# Altium schematic symbol library custom_components.SchLib: 25 symbols
Pins are listed as number, name and electrical type; pins without a type are passive.

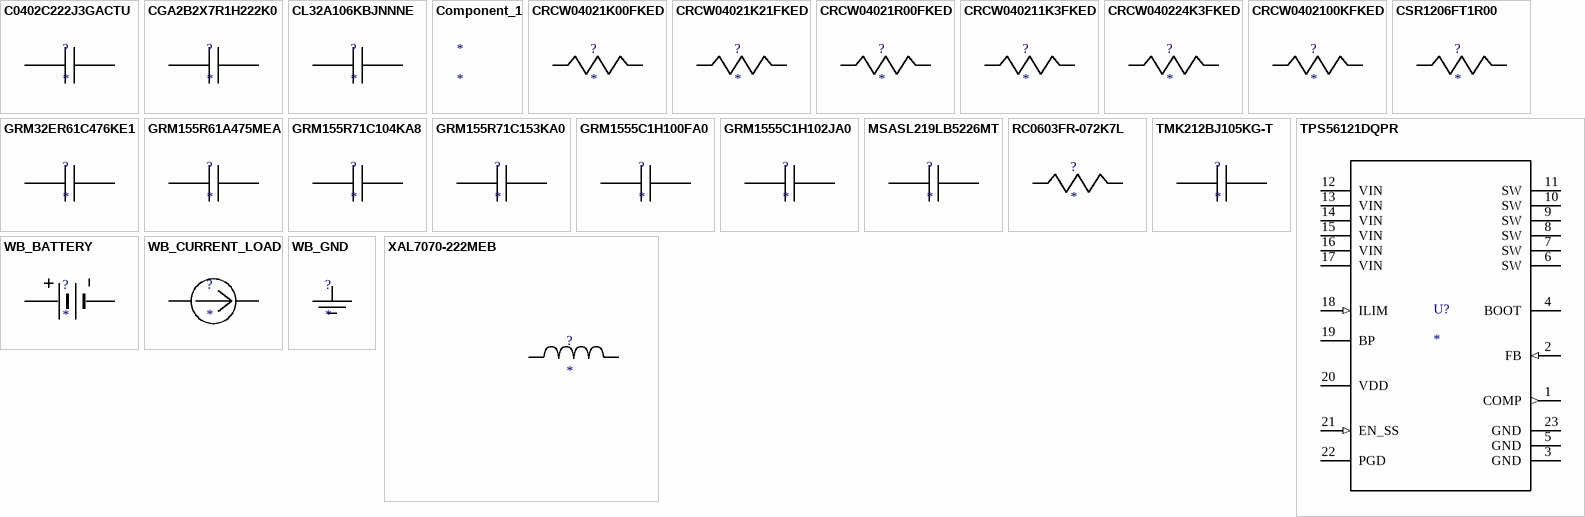
[diagram p0: symbols C0402C222J3GACTU to XAL7070-222MEB]

## C0402C222J3GACTU
designator ?
No Description Available; Manufacturer_Part_Number: C0402C222J3GACTU; Vendor: Kemet; Manufacturer_Name: Kemet; Copyright: Copyright (C) 2018 Accelerated Designs. All rights reserved; RefDes: RefDes; TYPE: TYPE; Value: Value
footprint 0402
pins: 1, 2

## CGA2B2X7R1H222K0
designator ?
No Description Available; Manufacturer_Part_Number: CGA2B2X7R1H222K050BA; Vendor: TDK; Manufacturer_Name: TDK; Copyright: Copyright (C) 2018 Accelerated Designs. All rights reserved; RefDes: RefDes; TYPE: TYPE; Value: Value
footprint 0402
pins: 1, 2

## CL32A106KBJNNNE
designator ?
No Description Available; Manufacturer_Part_Number: CL32A106KBJNNNE; Vendor: Samsung Electro-Mechanics; Manufacturer_Name: Samsung Electro-Mechanics; Copyright: Copyright (C) 2018 Accelerated Designs. All rights reserved; RefDes: RefDes; TYPE: TYPE; Value: Value
footprint 1210_270
pins: 1, 2

## Component_1
designator *

## CRCW04021K00FKED
designator ?
No Description Available; Manufacturer_Part_Number: CRCW04021K00FKED; Vendor: Vishay-Dale; Manufacturer_Name: Vishay-Dale; Copyright: Copyright (C) 2018 Accelerated Designs. All rights reserved; RefDes: RefDes; TYPE: TYPE; Value: Value
footprint 0402
pins: 1, 2

## CRCW04021K21FKED
designator ?
No Description Available; Manufacturer_Part_Number: CRCW04021K21FKED; Vendor: Vishay-Dale; Manufacturer_Name: Vishay-Dale; Copyright: Copyright (C) 2018 Accelerated Designs. All rights reserved; RefDes: RefDes; TYPE: TYPE; Value: Value
footprint 0402
pins: 1, 2

## CRCW04021R00FKED
designator ?
No Description Available; Manufacturer_Part_Number: CRCW04021R00FKED; Vendor: Vishay-Dale; Manufacturer_Name: Vishay-Dale; Copyright: Copyright (C) 2018 Accelerated Designs. All rights reserved; RefDes: RefDes; TYPE: TYPE; Value: Value
footprint 0402
pins: 1, 2

## CRCW040211K3FKED
designator ?
No Description Available; Manufacturer_Part_Number: CRCW040211K3FKED; Vendor: Vishay-Dale; Manufacturer_Name: Vishay-Dale; Copyright: Copyright (C) 2018 Accelerated Designs. All rights reserved; RefDes: RefDes; TYPE: TYPE; Value: Value
footprint 0402
pins: 1, 2

## CRCW040224K3FKED
designator ?
No Description Available; Manufacturer_Part_Number: CRCW040224K3FKED; Vendor: Vishay-Dale; Manufacturer_Name: Vishay-Dale; Copyright: Copyright (C) 2018 Accelerated Designs. All rights reserved; RefDes: RefDes; TYPE: TYPE; Value: Value
footprint 0402
pins: 1, 2

## CRCW0402100KFKED
designator ?
No Description Available; Manufacturer_Part_Number: CRCW0402100KFKED; Vendor: Vishay-Dale; Manufacturer_Name: Vishay-Dale; Copyright: Copyright (C) 2018 Accelerated Designs. All rights reserved; RefDes: RefDes; TYPE: TYPE; Value: Value
footprint 0402
pins: 1, 2

## CSR1206FT1R00
designator ?
No Description Available; Manufacturer_Part_Number: CSR1206FT1R00; Vendor: Stackpole Electronics Inc; Manufacturer_Name: Stackpole Electronics Inc; Copyright: Copyright (C) 2018 Accelerated Designs. All rights reserved; RefDes: RefDes; TYPE: TYPE; Value: Value
footprint 1206
pins: 1, 2

## GRM32ER61C476KE1
designator ?
No Description Available; Manufacturer_Part_Number: GRM32ER61C476KE15L; Vendor: MuRata; Manufacturer_Name: MuRata; Copyright: Copyright (C) 2018 Accelerated Designs. All rights reserved; RefDes: RefDes; TYPE: TYPE; Value: Value
footprint 1210_280
pins: 1, 2

## GRM155R61A475MEA
designator ?
No Description Available; Manufacturer_Part_Number: GRM155R61A475MEAAD; Vendor: MuRata; Manufacturer_Name: MuRata; Copyright: Copyright (C) 2018 Accelerated Designs. All rights reserved; RefDes: RefDes; TYPE: TYPE; Value: Value
footprint 0402_065
pins: 1, 2

## GRM155R71C104KA8
designator ?
No Description Available; Manufacturer_Part_Number: GRM155R71C104KA88D; Vendor: MuRata; Manufacturer_Name: MuRata; Copyright: Copyright (C) 2018 Accelerated Designs. All rights reserved; RefDes: RefDes; TYPE: TYPE; Value: Value
footprint 0402
pins: 1, 2

## GRM155R71C153KA0
designator ?
No Description Available; Manufacturer_Part_Number: GRM155R71C153KA01D; Vendor: MuRata; Manufacturer_Name: MuRata; Copyright: Copyright (C) 2018 Accelerated Designs. All rights reserved; RefDes: RefDes; TYPE: TYPE; Value: Value
footprint 0402
pins: 1, 2

## GRM1555C1H100FA0
designator ?
No Description Available; Manufacturer_Part_Number: GRM1555C1H100FA01D; Vendor: MuRata; Manufacturer_Name: MuRata; Copyright: Copyright (C) 2018 Accelerated Designs. All rights reserved; RefDes: RefDes; TYPE: TYPE; Value: Value
footprint 0402
pins: 1, 2

## GRM1555C1H102JA0
designator ?
No Description Available; Manufacturer_Part_Number: GRM1555C1H102JA01J; Vendor: MuRata; Manufacturer_Name: MuRata; Copyright: Copyright (C) 2018 Accelerated Designs. All rights reserved; RefDes: RefDes; TYPE: TYPE; Value: Value
footprint 0402
pins: 1, 2

## MSASL219LB5226MT
designator ?
No Description Available; Manufacturer_Part_Number: MSASL219LB5226MTNA01; Vendor: Taiyo Yuden; Manufacturer_Name: Taiyo Yuden; Copyright: Copyright (C) 2018 Accelerated Designs. All rights reserved; RefDes: RefDes; TYPE: TYPE; Value: Value
footprint 0805
pins: 1, 2

## RC0603FR-072K7L
designator ?
No Description Available; Manufacturer_Part_Number: RC0603FR-072K7L; Manufacturer_Name: Yageo; Vendor: Yageo America; Copyright: Copyright (C) 2018 Accelerated Designs. All rights reserved; RefDes: RefDes; TYPE: TYPE; Value: Value
footprint 0603
pins: 1, 2

## TMK212BJ105KG-T
designator ?
No Description Available; Manufacturer_Part_Number: TMK212BJ105KG-T; Vendor: Taiyo Yuden; Manufacturer_Name: Taiyo Yuden; Copyright: Copyright (C) 2018 Accelerated Designs. All rights reserved; RefDes: RefDes; TYPE: TYPE; Value: Value
footprint 0805
pins: 1, 2

## TPS56121DQPR
designator U?
No Description Available; Manufacturer: Texas Instruments; PartNumber: TPS56121DQPR; RefDes: RefDes; TYPE: TYPE; Value: Value; Manufacturer_Part_Number: TPS56121DQPR; Manufacturer_Name: Texas Instruments; Copyright: Copyright (C) 2018 Accelerated Designs. All rights reserved
footprint DQP0022A
pins: 1 COMP (out), 2 FB (in), 3 GND (power), 4 BOOT (power), 5 GND (power), 6 SW (power), 7 SW (power), 8 SW (power), 9 SW (power), 10 SW (power), 11 SW (power), 12 VIN (power), 13 VIN (power), 14 VIN (power), 15 VIN (power), 16 VIN (power), 17 VIN (power), 18 ILIM (in), 19 BP (power), 20 VDD (power), 21 EN_SS (in), 22 PGD (oc), 23 GND (power)

## WB_BATTERY
designator ?
No Description Available; Manufacturer_Part_Number: WB_BATTERY; PowerPortType: POWER_GROUND; Value: Value; Manufacturer_Name: WB_BATTERY; Copyright: Copyright (C) 2018 Accelerated Designs. All rights reserved; RefDes: RefDes; TYPE: TYPE
pins: 1 +, 2 -

## WB_CURRENT_LOAD
designator ?
No Description Available; Manufacturer_Part_Number: WB_CURRENT_LOAD; PowerPortType: POWER_GROUND; Value: Value; Manufacturer_Name: WB_CURRENT_LOAD; Copyright: Copyright (C) 2018 Accelerated Designs. All rights reserved; RefDes: RefDes; TYPE: TYPE
pins: 1 +, 2 -

## WB_GND
designator ?
No Description Available; Manufacturer_Part_Number: WB_GND; PowerPortType: POWER_GROUND; Value: Value; Manufacturer_Name: WB_GND; Copyright: Copyright (C) 2018 Accelerated Designs. All rights reserved; RefDes: RefDes; TYPE: TYPE
pins: 1

## XAL7070-222MEB
designator ?
No Description Available; Manufacturer_Part_Number: XAL7070-222MEB; Vendor: Coilcraft; Manufacturer_Name: Coilcraft; Copyright: Copyright (C) 2018 Accelerated Designs. All rights reserved; RefDes: RefDes; TYPE: TYPE; Value: Value
footprint XAL7070
pins: 1, 2